# Altium schematic symbol library SIM800L.SchLib: 2 symbols
Pins are listed as number, name and electrical type; pins without a type are passive.

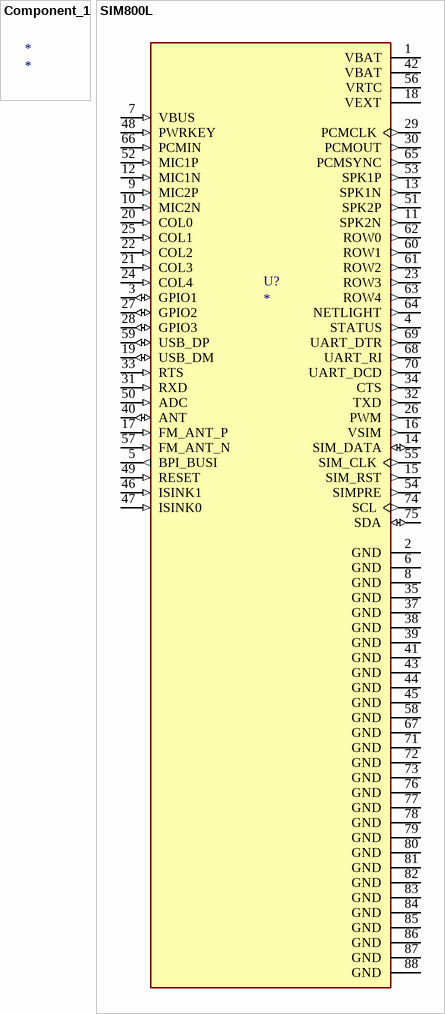
[diagram p0: symbols Component_1 to SIM800L]

## Component_1
designator *

## SIM800L
designator U?
SIM8000L. Quad-band GSM/GPRS Module; MF: {'manufacturer': u'Simcom'}; MP: SIM800L; Package: None; Value: *; Availability: Unavailable; Price: None
footprint MODULE_SIM800L
pins: 1 VBAT (power), 2 GND (power), 3 GPIO1 (io), 4 STATUS (out), 5 BPI_BUSI (out), 6 GND (power), 7 VBUS (in), 8 GND (power), 9 MIC2P (in), 10 MIC2N (in), 11 SPK2N (out), 12 MIC1N (in), 13 SPK1N (out), 14 SIM_DATA (io), 15 SIM_RST (out), 16 VSIM (out), 17 FM_ANT_P (in), 18 VEXT (power), 19 USB_DM (io), 20 COL0 (in), 21 COL3 (in), 22 COL2 (in), 23 ROW3 (out), 24 COL4 (in), 25 COL1 (in), 26 PWM (out), 27 GPIO2 (io), 28 GPIO3 (io), 29 PCMCLK (out), 30 PCMOUT (out), 31 RXD (in), 32 TXD (out), 33 RTS (in), 34 CTS (out), 35 GND (power), 37 GND (power), 38 GND (power), 39 GND (power), 40 ANT (io), 41 GND (power), 42 VBAT (power), 43 GND (power), 44 GND (power), 45 GND (power), 46 ISINK1 (in), 47 ISINK0 (in), 48 PWRKEY (in), 49 RESET (in), 50 ADC (in), 51 SPK2P (out), 52 MIC1P (in), 53 SPK1P (out), 54 SIMPRE (out), 55 SIM_CLK (out), 56 VRTC (power), 57 FM_ANT_N (in), 58 GND (power), 59 USB_DP (io), 60 ROW1 (out), 61 ROW2 (out), 62 ROW0 (out), 63 ROW4 (out), 64 NETLIGHT (out), 65 PCMSYNC (out), 66 PCMIN (in), 67 GND (power), 68 UART_RI (out), 69 UART_DTR (out), 70 UART_DCD (out), 71 GND (power), 72 GND (power), 73 GND (power), 74 SCL (out), 75 SDA (io), 76 GND (power), 77 GND (power), 78 GND (power), 79 GND (power), 80 GND (power), 81 GND (power), 82 GND (power), 83 GND (power), 84 GND (power), 85 GND (power), 86 GND (power), 87 GND (power), 88 GND (power)